# Altium schematic symbol library SCH - POWER - SWITCHMODE - TI TPS51513_RHB_32.SchLib: 1 symbol
Pins are listed as number, name and electrical type; pins without a type are passive.

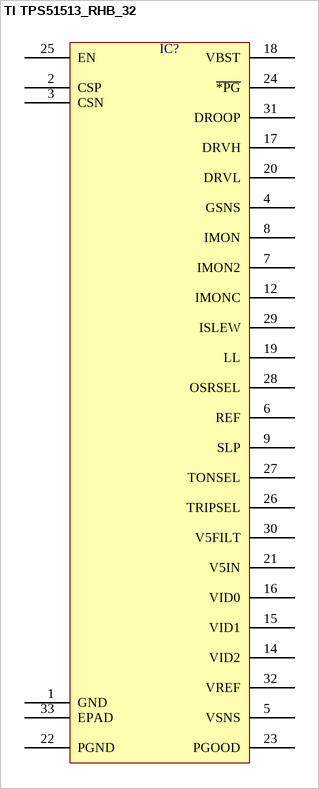
[diagram p0: symbol TI TPS51513_RHB_32]

## TI TPS51513_RHB_32
designator IC?  (value not drawn)
pins: 1 GND, 2 CSP, 3 CSN, 4 GSNS, 5 VSNS, 6 REF, 7 IMON2, 8 IMON, 9 SLP, 12 IMONC, 14 VID2, 15 VID1, 16 VID0, 17 DRVH, 18 VBST, 19 LL, 20 DRVL, 21 V5IN, 22 PGND, 23 PGOOD, 24 ~{*PG}, 25 EN, 26 TRIPSEL, 27 TONSEL, 28 OSRSEL, 29 ISLEW, 30 V5FILT, 31 DROOP, 32 VREF, 33 EPAD